# EAGLE library part DRV83053EPHPRQ1 (library MDULib)
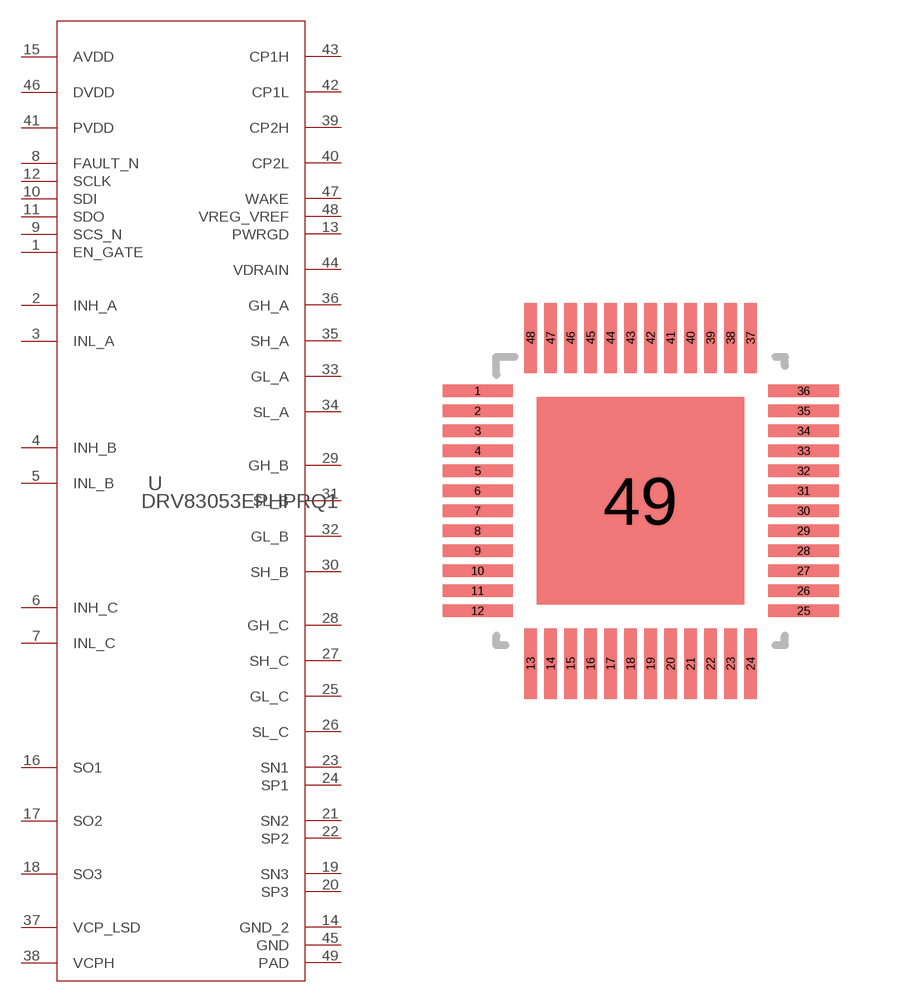
[diagram p1: symbol with the pads of PHP0048G_N; footprint PHP0048G_N]

Designator prefix U

## DRV83053EPHPRQ1 (ALTERNATEPARTNUMBER: DRV83053EPHPQ1; APPLICATION_BUILDNUMBER: *; COMPTYPE: IC; MANUFACTURER: Texas Instruments; MOUNTTYPE: SMT; PACKAGEREFERENCE: PHP0048G; PARTNUMBER: DRV83053EPHPRQ1; PIN_COUNT: 49; REFDES: RefDes; TYPE: TYPE; VALUE: Value)  [PHP0048G_N]
1  EN_GATE  in
2  INH_A  in
3  INL_A  in
4  INH_B  in
5  INL_B  in
6  INH_C  in
7  INL_C  in
8  FAULT_N  oc
9  SCS_N  in
10  SDI  in
11  SDO  out
12  SCLK  in
13  PWRGD  oc
14  GND_2  pwr
15  AVDD  pwr
16  SO1  out
17  SO2  out
18  SO3  out
19  SN3  in
20  SP3  in
21  SN2  in
22  SP2  in
23  SN1  in
24  SP1  in
25  GL_C  out
26  SL_C  in
27  SH_C  in
28  GH_C  out
29  GH_B  out
30  SH_B  in
31  SL_B  in
32  GL_B  out
33  GL_A  out
34  SL_A  in
35  SH_A  in
36  GH_A  out
37  VCP_LSD  pas
38  VCPH  pas
39  CP2H  pas
40  CP2L  pas
41  PVDD  pwr
42  CP1L  pas
43  CP1H  pas
44  VDRAIN  pwr
45  GND  pwr
46  DVDD  pwr
47  WAKE  in
48  VREG_VREF  pwr
49  PAD  pwr

## Footprint PHP0048G_N (pad centres in mm)
smd 1.753 x 0.305: 1 -4.075,2.75; 2 -4.075,2.25; 3 -4.075,1.75; 4 -4.075,1.25; 5 -4.075,0.75; 6 -4.075,0.25; 7 -4.075,-0.25; 8 -4.075,-0.75; 9 -4.075,-1.25; 10 -4.075,-1.75; 11 -4.075,-2.25; 12 -4.075,-2.75; 25 4.075,-2.75; 26 4.075,-2.25; 27 4.075,-1.75; 28 4.075,-1.25; 29 4.075,-0.75; 30 4.075,-0.25; 31 4.075,0.25; 32 4.075,0.75; 33 4.075,1.25; 34 4.075,1.75; 35 4.075,2.25; 36 4.075,2.75
smd 0.305 x 1.753: 13 -2.75,-4.075; 14 -2.25,-4.075; 15 -1.75,-4.075; 16 -1.25,-4.075; 17 -0.75,-4.075; 18 -0.25,-4.075; 19 0.25,-4.075; 20 0.75,-4.075; 21 1.25,-4.075; 22 1.75,-4.075; 23 2.25,-4.075; 24 2.75,-4.075; 37 2.75,4.075; 38 2.25,4.075; 39 1.75,4.075; 40 1.25,4.075; 41 0.75,4.075; 42 0.25,4.075; 43 -0.25,4.075; 44 -0.75,4.075; 45 -1.25,4.075; 46 -1.75,4.075; 47 -2.25,4.075; 48 -2.75,4.075
smd 5.182 x 5.182: 49 0,0